# Altium footprint library PENTAWATT.PcbLib: 1 footprints
Each footprint in its own frame and in the unit in brackets; x right, y up, seen from the top. Pads: shape width x height; smd on the part's side, far side on the other; paste and mask are expansions set on the pad; w line width, h text height; cw(c..) or ccw(c..) is an arc to the next point about the centre after c.
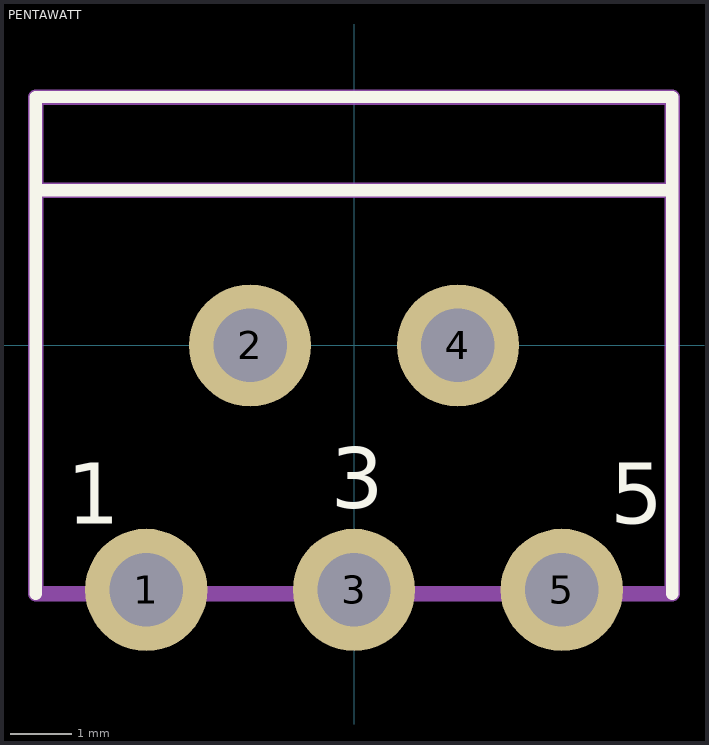
[diagram p0: the footprint, top view; thin cyan lines are the x and y axes]

## PENTAWATT [mm]
pads (5):
  round 2 hole 1.2: 1(-3.4,-4) 2(-1.7,0) 3(0,-4) 4(1.7,0) 5(3.4,-4)
Top Overlay:
  lines w0.2: -5.207,-4.064 -5.207,4.064 5.207,4.064 5.207,-4.064 ; -5.207,2.54 5.207,2.54
  text "3" at -0.381,-2.667 h1
  text "5" at 4.191,-2.921 h1
  text "1" at -4.699,-2.921 h1
Mechanical 13:
  lines w0.254: -5.207,2.54 5.207,2.54 ; -5.207,-4.064 -5.207,4.064 5.207,4.064 5.207,-4.064 -5.207,-4.064
  text ".Designator" at -2.921,2.667 h2.5
3D body: height 22.08, standoff -3.22, extent -5.2,-4.01 5.2,4.064